# Altium footprint library PCB_LIB.PcbLib: 60 footprints (part 1 of 4)
Each footprint in its own frame and in the unit in brackets; x right, y up, seen from the top. Pads: shape width x height; smd on the part's side, far side on the other; paste and mask are expansions set on the pad; w line width, h text height; cw(c..) or ccw(c..) is an arc to the next point about the centre after c.
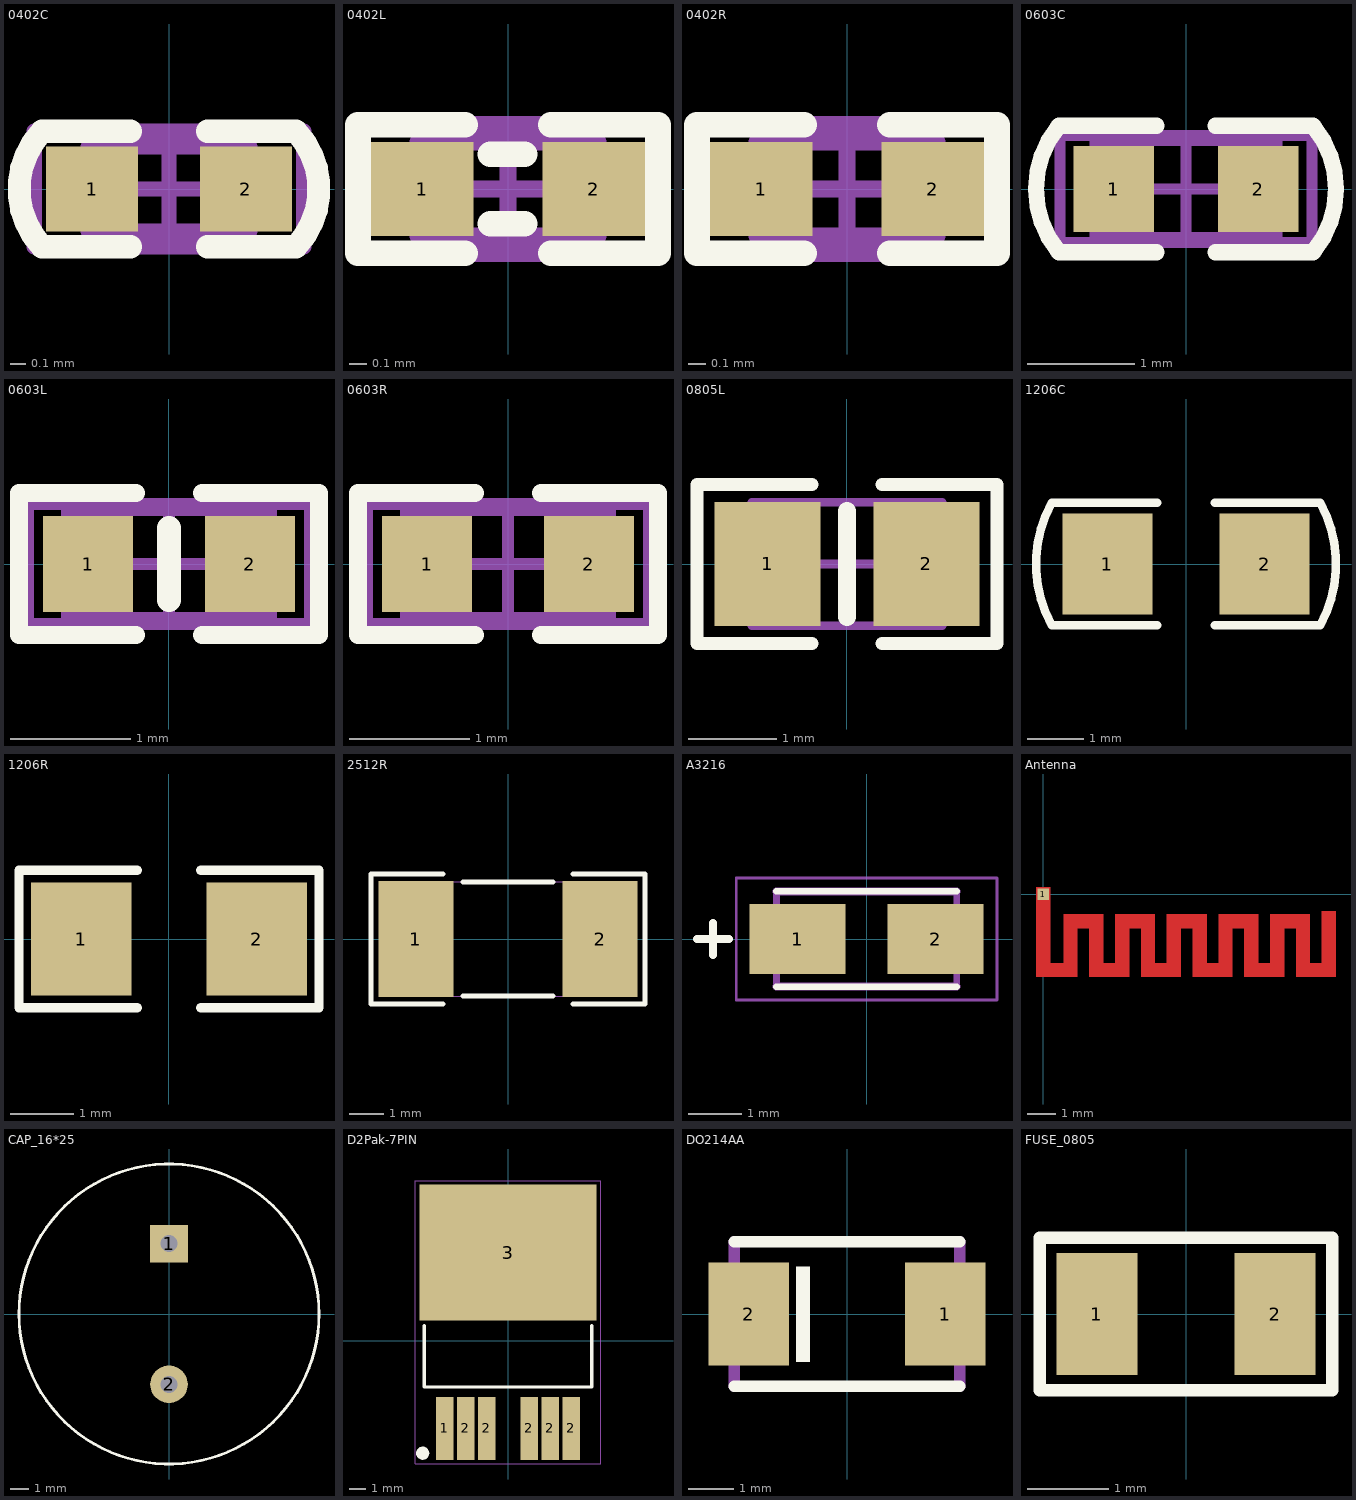
[diagram p0: the footprints below, top view; thin cyan lines are the x and y axes]

## 0402C [mm]
pads (2):
  rect 0.6x0.55 smd: 1(-0.5,0) 2(0.5,0)
Top Overlay:
  lines w0.15: -0.25,-0.375 -0.824,-0.375 cw(c-0.432,0) -0.824,0.375 -0.25,0.375 ; 0.25,-0.375 0.824,-0.375 ccw(c0.432,0) 0.824,0.375 0.25,0.375
Mechanical 7:
  lines w0.1: -0.525,-0.275 0.525,-0.275 0.525,0.275 -0.525,0.275 -0.525,-0.275
Mechanical 15:
  lines w0.1: -0.275,0 0.275,0 ; 0,-0.275 0,0.275 ; -0.875,-0.375 -0.875,0.375 0.875,0.375 0.875,-0.375 -0.875,-0.375
3D body "User Library-0402(1005M) Cap.step": height 0.5, standoff -0.01, extent -0.508,-0.254 0.508,0.254

## 0402L [mm]
pads (2):
  rect 0.6x0.55 smd: 1(-0.5,0) 2(0.5,0)
Top Overlay:
  lines w0.15: -0.25,-0.375 -0.875,-0.375 -0.875,0.375 -0.25,0.375 ; -0.102,-0.203 0.098,-0.203 ; -0.102,0.203 0.098,0.203 ; 0.25,-0.375 0.875,-0.375 0.875,0.375 0.25,0.375
Mechanical 7:
  lines w0.1: -0.525,-0.275 -0.525,0.275 0.525,0.275 0.525,-0.275 -0.525,-0.275
Mechanical 15:
  lines w0.1: -0.275,0 0.275,0 ; 0,-0.275 0,0.275 ; -0.875,-0.375 0.875,-0.375 0.875,0.375 -0.875,0.375 -0.875,-0.375
3D body "User Library-Chip Inductor 0402.step": height 0.5, standoff 0, extent -0.5,-0.302 0.5,0.298

## 0402R [mm]
pads (2):
  rect 0.6x0.55 smd: 1(-0.5,0) 2(0.5,0)
Top Overlay:
  lines w0.15: -0.25,-0.375 -0.875,-0.375 -0.875,0.375 -0.25,0.375 ; 0.25,-0.375 0.875,-0.375 0.875,0.375 0.25,0.375
Mechanical 7:
  lines w0.1: -0.525,-0.275 0.525,-0.275 0.525,0.275 -0.525,0.275 -0.525,-0.275
Mechanical 15:
  lines w0.1: -0.275,0 0.275,0 ; 0,-0.275 0,0.275 ; -0.875,-0.375 -0.875,0.375 0.875,0.375 0.875,-0.375 -0.875,-0.375
3D body "User Library-res0402-1.step": height 0.3, standoff 0, extent -0.5,-0.25 0.5,0.25

## 0603C [mm]
pads (2):
  rect 0.75x0.8 smd: 1(-0.675,0) 2(0.675,0)
Top Overlay:
  lines w0.15: -1.194,-0.582 cw(c-0.475,0) -1.194,0.582 ; -1.183,-0.59 -0.275,-0.59 ; -1.183,0.59 -0.275,0.59 ; 0.275,-0.59 1.183,-0.59 ; 0.275,0.59 1.183,0.59 ; 1.194,-0.582 ccw(c0.475,0) 1.194,0.582
Mechanical 13:
  lines w0.1: -0.85,-0.45 0.85,-0.45 0.85,0.45 -0.85,0.45 -0.85,-0.45
Mechanical 15:
  lines w0.1: -0.45,0 0.45,0 ; 0,-0.45 0,0.45 ; -1.175,-0.5 -1.175,0.5 1.175,0.5 1.175,-0.5 -1.175,-0.5
3D body "User Library-Chip Capacitor 0603.step": height 0.8, standoff 0, extent -0.8,-0.428 0.8,0.432

## 0603L [mm]
pads (2):
  rect 0.75x0.8 smd: 1(-0.675,0) 2(0.675,0)
Top Overlay:
  lines w0.15: -0.275,-0.59 -1.25,-0.59 -1.25,0.59 -0.275,0.59 ; 0.275,-0.59 1.25,-0.59 1.25,0.59 0.275,0.59
  lines w0.2: 0,-0.3 0,0.3
Mechanical 13:
  lines w0.1: -0.85,-0.45 -0.85,0.45 0.85,0.45 0.85,-0.45 -0.85,-0.45
Mechanical 15:
  lines w0.1: -0.45,0 0.45,0 ; 0,-0.45 0,0.45 ; -1.175,-0.5 1.175,-0.5 1.175,0.5 -1.175,0.5 -1.175,-0.5
3D body "User Library-Chip Inductor.step": height 0.8, standoff 0, extent -0.8,-0.475 0.8,0.475

## 0603R [mm]
pads (2):
  rect 0.75x0.8 smd: 1(-0.675,0) 2(0.675,0)
Top Overlay:
  lines w0.15: -0.275,-0.59 -1.25,-0.59 -1.25,0.59 -0.275,0.59 ; 0.275,-0.59 1.25,-0.59 1.25,0.59 0.275,0.59
Mechanical 13:
  lines w0.1: -0.85,-0.45 -0.85,0.45 0.85,0.45 0.85,-0.45 -0.85,-0.45
Mechanical 15:
  lines w0.1: -0.45,0 0.45,0 ; 0,-0.45 0,0.45 ; -1.175,-0.5 1.175,-0.5 1.175,0.5 -1.175,0.5 -1.175,-0.5
3D body "0603R.STEP": height 0.41, standoff -0.01, extent -0.8,-0.406 0.8,0.404

## 0805L [mm]
height 0.7
pads (2):
  rect 1.2x1.4 smd: 1(-0.9,0) 2(0.9,0)
Top Overlay:
  lines w0.15: -0.4,-0.9 -1.7,-0.9 -1.7,0.9 -0.4,0.9 ; 0.4,-0.9 1.7,-0.9 1.7,0.9 0.4,0.9
  lines w0.2: 0,-0.6 0,0.6
Mechanical 13:
  lines w0.1: -1.075,-0.7 -1.075,0.7 1.075,0.7 1.075,-0.7 -1.075,-0.7
Mechanical 15:
  lines w0.1: -0.5,0 0.5,0 ; 0,-0.5 0,0.5
3D body: height 0.7, standoff 0, extent -1.075,-0.7 1.075,0.7

## 1206C [mm]
pads (2):
  rect 1.6x1.8 smd: 1(-1.4,0) 2(1.4,0)
Top Overlay:
  lines w0.15: -0.508,-1.092 -2.388,-1.092 cw(c-0.395,-0.001) -2.388,1.091 -0.508,1.091 ; 0.508,-1.092 2.388,-1.092 ; 0.508,1.092 2.388,1.092 cw(c0.395,0.001) 2.388,-1.091

## 1206R [mm]
pads (2):
  rect 1.6x1.8 smd: 1(-1.4,0) 2(1.4,0)
Top Overlay:
  lines w0.15: -0.508,-1.092 -2.388,-1.092 -2.388,1.091 -0.508,1.091 ; 0.508,-1.092 2.388,-1.092 2.388,1.092 0.508,1.092
3D body "User Library-CR3216-1206.STEP": height 0.6, standoff 0, extent -1.6,-0.8 1.6,0.8

## 2512R [mm]
pads (2):
  rect 2.2x3.4 smd: 1(-2.7,0) 2(2.7,0)
Top Overlay:
  lines w0.15: -1.905,-1.905 -4.013,-1.905 -4.013,1.905 -1.905,1.905 ; -1.321,-1.675 1.321,-1.675 ; -1.321,1.675 1.321,1.675 ; 1.905,-1.905 4.013,-1.905 4.013,1.905 1.905,1.905
Mechanical 1:
  lines w0: -2.388,-1.676 -2.388,1.676 ; -2.388,-1.676 -3.226,-1.676 -3.226,1.676 -2.388,1.676 ; -2.388,-1.676 2.388,-1.676 ; -2.388,1.676 2.388,1.676 ; 2.388,-1.676 2.388,1.676 ; 2.388,-1.676 3.226,-1.676 3.226,1.676 2.388,1.676
3D body "2512R.STEP": height 0.56, standoff 0, extent -3.2,-1.605 3.2,1.605

## A3216 [mm]
pads (2):
  rect 1.81x1.32 smd: 1(-1.3,0) 2(1.3,0)
Top Overlay:
  lines w0.127: -1.7,-0.9 1.7,-0.9 ; -1.7,0.9 1.7,0.9
  lines w0.15: -3.2,0 -2.6,0 ; -2.9,-0.3 -2.9,0.3
Mechanical 1:
  lines w0.127: -1.7,-0.9 -1.7,0.9 ; 1.7,-0.9 1.7,0.9
  lines w0.15: -1.7,-0.9 1.7,-0.9 ; -1.7,0.9 1.7,0.9
Mechanical 4:
  lines w0.051: -2.46,-1.15 -2.46,1.15 2.46,1.15 2.46,-1.15 -2.46,-1.15

## Antenna [mm]
pads (1):
  rect 0.4x0.4 smd: 1(0,0)
Top Layer:
  region: 1.2,-2.887 1.2,-2.387 -0.25,-2.387 -0.25,-2.887
  region: 2.1,-1.187 2.1,-0.687 0.7,-0.687 0.7,-1.187
  rectangle: -0.25,-2.887 0.25,0.245
  region: 1.2,-0.687 0.7,-0.687 0.7,-2.887 1.2,-2.887
  region: 3,-0.687 2.5,-0.687 2.5,-2.887 3,-2.887
  region: 3.9,-1.187 3.9,-0.687 2.5,-0.687 2.5,-1.187
  region: 2.1,-0.687 1.6,-0.687 1.6,-2.887 2.1,-2.887
  region: 3,-2.887 3,-2.387 1.6,-2.387 1.6,-2.887
  region: 5.7,-1.187 5.7,-0.687 4.3,-0.687 4.3,-1.187
  region: 4.8,-0.687 4.3,-0.687 4.3,-2.887 4.8,-2.887
  region: 7.5,-1.187 7.5,-0.687 6.1,-0.687 6.1,-1.187
  region: 9.3,-1.187 9.3,-0.687 7.9,-0.687 7.9,-1.187
  region: 5.7,-0.687 5.2,-0.687 5.2,-2.887 5.7,-2.887
  region: 10.2,-0.587 9.7,-0.587 9.7,-2.887 10.2,-2.887
  region: 4.8,-2.887 4.8,-2.387 3.4,-2.387 3.4,-2.887
  region: 6.6,-0.687 6.1,-0.687 6.1,-2.887 6.6,-2.887
  region: 6.6,-2.887 6.6,-2.387 5.2,-2.387 5.2,-2.887
  region: 7.5,-0.687 7,-0.687 7,-2.887 7.5,-2.887
  region: 8.4,-0.687 7.9,-0.687 7.9,-2.887 8.4,-2.887
  region: 9.3,-0.687 8.8,-0.687 8.8,-2.887 9.3,-2.887
  region: 8.4,-2.887 8.4,-2.387 7,-2.387 7,-2.887
  region: 10.2,-2.887 10.2,-2.387 8.8,-2.387 8.8,-2.887
  region: 3.9,-0.687 3.4,-0.687 3.4,-2.887 3.9,-2.887

## CAP_16*25 [mm]
height 25
pads (2):
  rect 2x2 hole 0.9: 1(0,3.75)
  round 2 hole 0.9: 2(0,-3.75)
Top Overlay:
  circle w0.15: c0,0 r8

## D2Pak-7PIN [mm]
pads (7):
  rect 1.05x3.8 smd: 1(-3.81,-5.3) 2(-2.54,-5.3) 2(-1.27,-5.3) 2(1.27,-5.3) 2(2.54,-5.3) 2(3.81,-5.3)
  rect 10.7x8.2 smd: 3(0,5.3)
Top Overlay:
  circle w0.127: c-5.1,-6.85 r0.05
  circle w0.127: c-5.05,-6.9 r0.141
  circle w0.127: c-5.1,-6.8 r0.158
  circle w0.127: c-5.1,-6.75 r0.206
  circle w0.127: c-5.2,-6.8 r0.224
  circle w0.127: c-5.2,-6.85 r0.212
  circle w0.127: c-5.15,-6.8 r0.335
  lines w0.2: -5.05,0.9 -5.05,-2.8 5.05,-2.8 5.05,0.9
Mechanical 4:
  lines w0.05: -5.6,-7.45 5.6,-7.45 5.6,9.65 -5.6,9.65 -5.6,-7.45

## DO214AA [mil]
pads (2):
  rect 70x90 smd: 1(85.71,0) 2(-85.71,0)
Top Overlay:
  region: -44.44,41.34 -32.56,41.34 -32.56,-41.4 -44.44,-41.4
  lines w10: -98.43,-63.15 98.43,-63.15 ; -98.43,63.15 98.43,63.15
Mechanical 1:
  region: -112.27,25.59 -102.36,25.59 -102.36,-27.58 -112.27,-27.58
  region: 102.51,25.59 112.2,25.59 112.2,-27.6 102.51,-27.6
  lines w10: -98.43,-63.15 -98.43,63.15 ; 98.43,-63.15 98.43,63.15

## FUSE_0805 [mm]
pads (2):
  rect 1x1.5 smd: 1(-1.1,0) 2(1.1,0)
Top Overlay:
  lines w0.15: -1.803,-0.94 1.803,-0.94 1.803,0.94 -1.803,0.94 -1.803,-0.94
3D body "68916.stp": height 0.66, standoff 0, extent -1.049,-0.65 1.101,0.701